# Altium footprint library ADI.PcbLib: 9 footprints
Each footprint in its own frame and in the unit in brackets; x right, y up, seen from the top. Pads: shape width x height; smd on the part's side, far side on the other; paste and mask are expansions set on the pad; w line width, h text height; cw(c..) or ccw(c..) is an arc to the next point about the centre after c.
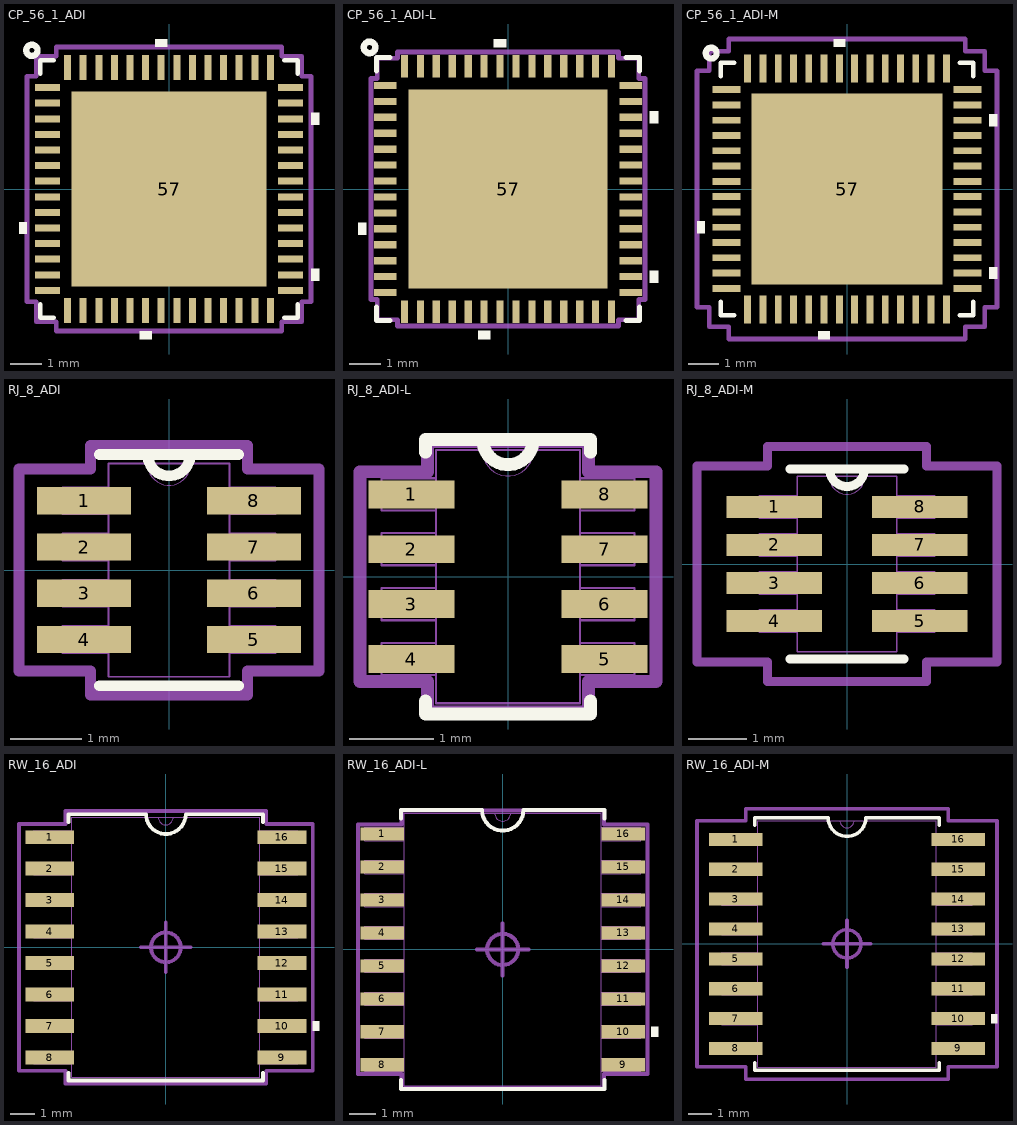
[diagram p0: the footprints below, top view; thin cyan lines are the x and y axes]

## CP_56_1_ADI [mm]
pads (57):
  rect 0.808x0.225 smd paste+0 mask+0: 1(-3.896,3.25) 2(-3.896,2.75) 3(-3.896,2.25) 4(-3.896,1.75) 5(-3.896,1.25) 6(-3.896,0.75) 7(-3.896,0.25) 8(-3.896,-0.25) 9(-3.896,-0.75) 10(-3.896,-1.25) 11(-3.896,-1.75) 12(-3.896,-2.25) 13(-3.896,-2.75) 14(-3.896,-3.25) 29(3.896,-3.25) 30(3.896,-2.75) 31(3.896,-2.25) 32(3.896,-1.75) 33(3.896,-1.25) 34(3.896,-0.75) 35(3.896,-0.25) 36(3.896,0.25) 37(3.896,0.75) 38(3.896,1.25) 39(3.896,1.75) 40(3.896,2.25) 41(3.896,2.75) 42(3.896,3.25)
  rect 0.225x0.808 smd paste+0 mask+0: 15(-3.25,-3.896) 16(-2.75,-3.896) 17(-2.25,-3.896) 18(-1.75,-3.896) 19(-1.25,-3.896) 20(-0.75,-3.896) 21(-0.25,-3.896) 22(0.25,-3.896) 23(0.75,-3.896) 24(1.25,-3.896) 25(1.75,-3.896) 26(2.25,-3.896) 27(2.75,-3.896) 28(3.25,-3.896) 43(3.25,3.896) 44(2.75,3.896) 45(2.25,3.896) 46(1.75,3.896) 47(1.25,3.896) 48(0.75,3.896) 49(0.25,3.896) 50(-0.25,3.896) 51(-0.75,3.896) 52(-1.25,3.896) 53(-1.75,3.896) 54(-2.25,3.896) 55(-2.75,3.896) 56(-3.25,3.896)
  rect 6.248x6.248 smd paste-3.111 mask+0: 57(0,0)
Top Overlay:
  circle w0.2: c-4.395,4.445 r0.18
  region: -0.059,4.554 -0.44,4.554 -0.44,4.808 -0.059,4.808
  region: 4.554,2.441 4.808,2.441 4.808,2.06 4.554,2.06
  region: 4.554,-2.559 4.808,-2.559 4.808,-2.94 4.554,-2.94
  region: -0.56,-4.554 -0.941,-4.554 -0.941,-4.808 -0.56,-4.808
  region: -4.554,-1.06 -4.808,-1.06 -4.808,-1.441 -4.554,-1.441
  lines w0.152: -4.127,-3.695 -4.127,-4.127 -3.695,-4.127 ; -4.127,3.695 -4.127,4.127 -3.695,4.127 ; 3.695,-4.127 4.127,-4.127 4.127,-3.695 ; 3.695,4.127 4.127,4.127 4.127,3.695
Top Paste:
  region: 3.024,-1.662 1.662,-1.662 1.662,-3.024 3.024,-3.024
  region: 3.024,-0.1 1.662,-0.1 1.662,-1.462 3.024,-1.462
  region: 3.024,1.462 1.662,1.462 1.662,0.1 3.024,0.1
  region: 3.024,3.024 1.662,3.024 1.662,1.662 3.024,1.662
  region: 1.462,-1.662 0.1,-1.662 0.1,-3.024 1.462,-3.024
  region: 1.462,-0.1 0.1,-0.1 0.1,-1.462 1.462,-1.462
  region: 1.462,1.462 0.1,1.462 0.1,0.1 1.462,0.1
  region: 1.462,3.024 0.1,3.024 0.1,1.662 1.462,1.662
  region: -0.1,-1.662 -1.462,-1.662 -1.462,-3.024 -0.1,-3.024
  region: -0.1,-0.1 -1.462,-0.1 -1.462,-1.462 -0.1,-1.462
  region: -0.1,1.462 -1.462,1.462 -1.462,0.1 -0.1,0.1
  region: -0.1,3.024 -1.462,3.024 -1.462,1.662 -0.1,1.662
  region: -1.662,-1.662 -3.024,-1.662 -3.024,-3.024 -1.662,-3.024
  region: -1.662,-0.1 -3.024,-0.1 -3.024,-1.462 -1.662,-1.462
  region: -1.662,1.462 -3.024,1.462 -3.024,0.1 -1.662,0.1
  region: -1.662,3.024 -3.024,3.024 -3.024,1.662 -1.662,1.662
Mechanical 15:
  lines w0.152: -4.554,-3.616 -4.554,3.616 -4.255,3.616 -4.255,4.255 -3.616,4.255 -3.616,4.554 3.616,4.554 3.616,4.255 4.255,4.255 4.255,3.616 4.554,3.616 4.554,-3.616 4.255,-3.616 4.255,-4.255 3.616,-4.255 3.616,-4.554 -3.616,-4.554 -3.616,-4.255 -4.255,-4.255 -4.255,-3.616 -4.554,-3.616
3D body "CP_56_1_ADI.step": height 0.97, standoff 0, extent -4,-4 4,4

## CP_56_1_ADI-L [mm]
pads (57):
  rect 0.708x0.225 smd paste+0 mask+0: 1(-3.846,3.25) 2(-3.846,2.75) 3(-3.846,2.25) 4(-3.846,1.75) 5(-3.846,1.25) 6(-3.846,0.75) 7(-3.846,0.25) 8(-3.846,-0.25) 9(-3.846,-0.75) 10(-3.846,-1.25) 11(-3.846,-1.75) 12(-3.846,-2.25) 13(-3.846,-2.75) 14(-3.846,-3.25) 29(3.846,-3.25) 30(3.846,-2.75) 31(3.846,-2.25) 32(3.846,-1.75) 33(3.846,-1.25) 34(3.846,-0.75) 35(3.846,-0.25) 36(3.846,0.25) 37(3.846,0.75) 38(3.846,1.25) 39(3.846,1.75) 40(3.846,2.25) 41(3.846,2.75) 42(3.846,3.25)
  rect 0.225x0.708 smd paste+0 mask+0: 15(-3.25,-3.846) 16(-2.75,-3.846) 17(-2.25,-3.846) 18(-1.75,-3.846) 19(-1.25,-3.846) 20(-0.75,-3.846) 21(-0.25,-3.846) 22(0.25,-3.846) 23(0.75,-3.846) 24(1.25,-3.846) 25(1.75,-3.846) 26(2.25,-3.846) 27(2.75,-3.846) 28(3.25,-3.846) 43(3.25,3.846) 44(2.75,3.846) 45(2.25,3.846) 46(1.75,3.846) 47(1.25,3.846) 48(0.75,3.846) 49(0.25,3.846) 50(-0.25,3.846) 51(-0.75,3.846) 52(-1.25,3.846) 53(-1.75,3.846) 54(-2.25,3.846) 55(-2.75,3.846) 56(-3.25,3.846)
  rect 6.248x6.248 smd paste-3.111 mask+0: 57(0,0)
Top Overlay:
  circle w0.2: c-4.345,4.445 r0.18
  region: -0.059,4.454 -0.44,4.454 -0.44,4.708 -0.059,4.708
  region: 4.454,2.441 4.708,2.441 4.708,2.06 4.454,2.06
  region: 4.454,-2.559 4.708,-2.559 4.708,-2.94 4.454,-2.94
  region: -0.56,-4.454 -0.941,-4.454 -0.941,-4.708 -0.56,-4.708
  region: -4.454,-1.06 -4.708,-1.06 -4.708,-1.441 -4.454,-1.441
  lines w0.152: -4.127,-3.695 -4.127,-4.127 -3.695,-4.127 ; -4.127,3.695 -4.127,4.127 -3.695,4.127 ; 3.695,-4.127 4.127,-4.127 4.127,-3.695 ; 3.695,4.127 4.127,4.127 4.127,3.695
Top Paste:
  region: 3.024,-1.662 1.662,-1.662 1.662,-3.024 3.024,-3.024
  region: 3.024,-0.1 1.662,-0.1 1.662,-1.462 3.024,-1.462
  region: 3.024,1.462 1.662,1.462 1.662,0.1 3.024,0.1
  region: 3.024,3.024 1.662,3.024 1.662,1.662 3.024,1.662
  region: 1.462,-1.662 0.1,-1.662 0.1,-3.024 1.462,-3.024
  region: 1.462,-0.1 0.1,-0.1 0.1,-1.462 1.462,-1.462
  region: 1.462,1.462 0.1,1.462 0.1,0.1 1.462,0.1
  region: 1.462,3.024 0.1,3.024 0.1,1.662 1.462,1.662
  region: -0.1,-1.662 -1.462,-1.662 -1.462,-3.024 -0.1,-3.024
  region: -0.1,-0.1 -1.462,-0.1 -1.462,-1.462 -0.1,-1.462
  region: -0.1,1.462 -1.462,1.462 -1.462,0.1 -0.1,0.1
  region: -0.1,3.024 -1.462,3.024 -1.462,1.662 -0.1,1.662
  region: -1.662,-1.662 -3.024,-1.662 -3.024,-3.024 -1.662,-3.024
  region: -1.662,-0.1 -3.024,-0.1 -3.024,-1.462 -1.662,-1.462
  region: -1.662,1.462 -3.024,1.462 -3.024,0.1 -1.662,0.1
  region: -1.662,3.024 -3.024,3.024 -3.024,1.662 -1.662,1.662
Mechanical 15:
  lines w0.152: -4.302,-3.464 -4.302,3.464 -4.102,3.464 -4.102,4.102 -3.464,4.102 -3.464,4.302 3.464,4.302 3.464,4.102 4.102,4.102 4.102,3.464 4.302,3.464 4.302,-3.464 4.102,-3.464 4.102,-4.102 3.464,-4.102 3.464,-4.302 -3.464,-4.302 -3.464,-4.102 -4.102,-4.102 -4.102,-3.464 -4.302,-3.464
3D body "CP_56_1_ADI-L.step": height 0.97, standoff 0, extent -4,-4 4,4

## CP_56_1_ADI-M [mm]
pads (57):
  rect 0.908x0.225 smd paste+0 mask+0: 1(-3.946,3.25) 2(-3.946,2.75) 3(-3.946,2.25) 4(-3.946,1.75) 5(-3.946,1.25) 6(-3.946,0.75) 7(-3.946,0.25) 8(-3.946,-0.25) 9(-3.946,-0.75) 10(-3.946,-1.25) 11(-3.946,-1.75) 12(-3.946,-2.25) 13(-3.946,-2.75) 14(-3.946,-3.25) 29(3.946,-3.25) 30(3.946,-2.75) 31(3.946,-2.25) 32(3.946,-1.75) 33(3.946,-1.25) 34(3.946,-0.75) 35(3.946,-0.25) 36(3.946,0.25) 37(3.946,0.75) 38(3.946,1.25) 39(3.946,1.75) 40(3.946,2.25) 41(3.946,2.75) 42(3.946,3.25)
  rect 0.225x0.908 smd paste+0 mask+0: 15(-3.25,-3.946) 16(-2.75,-3.946) 17(-2.25,-3.946) 18(-1.75,-3.946) 19(-1.25,-3.946) 20(-0.75,-3.946) 21(-0.25,-3.946) 22(0.25,-3.946) 23(0.75,-3.946) 24(1.25,-3.946) 25(1.75,-3.946) 26(2.25,-3.946) 27(2.75,-3.946) 28(3.25,-3.946) 43(3.25,3.946) 44(2.75,3.946) 45(2.25,3.946) 46(1.75,3.946) 47(1.25,3.946) 48(0.75,3.946) 49(0.25,3.946) 50(-0.25,3.946) 51(-0.75,3.946) 52(-1.25,3.946) 53(-1.75,3.946) 54(-2.25,3.946) 55(-2.75,3.946) 56(-3.25,3.946)
  rect 6.248x6.248 smd paste-3.111 mask+0: 57(0,0)
Top Overlay:
  circle w0.2: c-4.445,4.445 r0.18
  region: -4.654,-1.06 -4.908,-1.06 -4.908,-1.441 -4.654,-1.441
  region: -0.56,-4.654 -0.941,-4.654 -0.941,-4.908 -0.56,-4.908
  region: 4.654,-2.559 4.908,-2.559 4.908,-2.94 4.654,-2.94
  region: 4.654,2.441 4.908,2.441 4.908,2.06 4.654,2.06
  region: -0.059,4.654 -0.44,4.654 -0.44,4.908 -0.059,4.908
  lines w0.152: -4.127,-3.695 -4.127,-4.127 -3.695,-4.127 ; -4.127,3.695 -4.127,4.127 -3.695,4.127 ; 3.695,-4.127 4.127,-4.127 4.127,-3.695 ; 3.695,4.127 4.127,4.127 4.127,3.695
Top Paste:
  region: -1.662,3.024 -3.024,3.024 -3.024,1.662 -1.662,1.662
  region: -1.662,1.462 -3.024,1.462 -3.024,0.1 -1.662,0.1
  region: -1.662,-0.1 -3.024,-0.1 -3.024,-1.462 -1.662,-1.462
  region: -1.662,-1.662 -3.024,-1.662 -3.024,-3.024 -1.662,-3.024
  region: -0.1,3.024 -1.462,3.024 -1.462,1.662 -0.1,1.662
  region: -0.1,1.462 -1.462,1.462 -1.462,0.1 -0.1,0.1
  region: -0.1,-0.1 -1.462,-0.1 -1.462,-1.462 -0.1,-1.462
  region: -0.1,-1.662 -1.462,-1.662 -1.462,-3.024 -0.1,-3.024
  region: 1.462,3.024 0.1,3.024 0.1,1.662 1.462,1.662
  region: 1.462,1.462 0.1,1.462 0.1,0.1 1.462,0.1
  region: 1.462,-0.1 0.1,-0.1 0.1,-1.462 1.462,-1.462
  region: 1.462,-1.662 0.1,-1.662 0.1,-3.024 1.462,-3.024
  region: 3.024,3.024 1.662,3.024 1.662,1.662 3.024,1.662
  region: 3.024,1.462 1.662,1.462 1.662,0.1 3.024,0.1
  region: 3.024,-0.1 1.662,-0.1 1.662,-1.462 3.024,-1.462
  region: 3.024,-1.662 1.662,-1.662 1.662,-3.024 3.024,-3.024
Mechanical 15:
  lines w0.152: -4.908,-3.87 -4.508,-3.87 -4.508,-4.508 -3.87,-4.508 -3.87,-4.908 3.87,-4.908 3.87,-4.508 4.508,-4.508 4.508,-3.87 4.908,-3.87 4.908,3.87 4.508,3.87 4.508,4.508 3.87,4.508 3.87,4.908 -3.87,4.908 -3.87,4.508 -4.508,4.508 -4.508,3.87 -4.908,3.87 -4.908,-3.87
3D body "CP_56_1_ADI-M.step": height 0.97, standoff 0, extent -4,-4 4,4

## RJ_8_ADI [mil]
pads (8):
  rect 52x15 smd: 1(-47,38.39) 2(-47,12.8) 3(-47,-12.8) 4(-47,-38.39) 5(47,-38.39) 6(47,-12.8) 7(47,12.8) 8(47,38.39)
Top Overlay:
  lines w5.98: -11.81,64 ccw(c0,64) 11.81,64
  lines w6: -38.5,-64 38.5,-64 ; -38.5,64 38.5,64
Mechanical 13:
  lines w0: -12,59 ccw(c0,59) 12,59
  lines w1: -59,-45.89 -59,-30.89 -33.5,-30.89 -33.5,-45.89 -59,-45.89 ; -59,-20.3 -59,-5.3 -33.5,-5.3 -33.5,-20.3 -59,-20.3 ; -59,5.3 -59,20.3 -33.5,20.3 -33.5,5.3 -59,5.3 ; -59,30.89 -59,45.89 -33.5,45.89 -33.5,30.89 -59,30.89 ; -33.5,-59 33.5,-59 33.5,59 -33.5,59 -33.5,-59 ; 33.5,-45.89 33.5,-30.89 59,-30.89 59,-45.89 33.5,-45.89 ; 33.5,-20.3 33.5,-5.3 59,-5.3 59,-20.3 33.5,-20.3 ; 33.5,5.3 33.5,20.3 59,20.3 59,5.3 33.5,5.3 ; 33.5,30.89 33.5,45.89 59,45.89 59,30.89 33.5,30.89
Mechanical 15:
  lines w6: -83,-55.89 -43.5,-55.89 -43.5,-69 43.5,-69 43.5,-55.89 83,-55.89 83,55.89 43.5,55.89 43.5,69 -43.5,69 -43.5,55.89 -83,55.89 -83,-55.89
3D body "RJ_8_ADI.step": height 57.09, standoff 0, extent -59.01,-59.01 59.02,59.02

## RJ_8_ADI-L [mil]
pads (8):
  rect 40x13 smd: 1(-45,38.39) 2(-45,12.8) 3(-45,-12.8) 4(-45,-38.39) 5(45,-38.39) 6(45,-12.8) 7(45,12.8) 8(45,38.39)
Top Overlay:
  lines w5.98: -11.81,64 ccw(c0,64) 11.81,64
  lines w6: -38.5,-57.99 -38.5,-64 38.5,-64 38.5,-57.99 ; -38.5,57.99 -38.5,64 38.5,64 38.5,57.99
Mechanical 13:
  lines w0: -12,59 ccw(c0,59) 12,59
  lines w1: -59,-45.89 -59,-30.89 -33.5,-30.89 -33.5,-45.89 -59,-45.89 ; -59,-20.3 -59,-5.3 -33.5,-5.3 -33.5,-20.3 -59,-20.3 ; -59,5.3 -59,20.3 -33.5,20.3 -33.5,5.3 -59,5.3 ; -59,30.89 -59,45.89 -33.5,45.89 -33.5,30.89 -59,30.89 ; -33.5,-59 33.5,-59 33.5,59 -33.5,59 -33.5,-59 ; 33.5,-45.89 33.5,-30.89 59,-30.89 59,-45.89 33.5,-45.89 ; 33.5,-20.3 33.5,-5.3 59,-5.3 59,-20.3 33.5,-20.3 ; 33.5,5.3 33.5,20.3 59,20.3 59,5.3 33.5,5.3 ; 33.5,30.89 33.5,45.89 59,45.89 59,30.89 33.5,30.89
Mechanical 15:
  lines w6: -69,-48.89 -37.5,-48.89 -37.5,-63 37.5,-63 37.5,-48.89 69,-48.89 69,48.89 37.5,48.89 37.5,63 -37.5,63 -37.5,48.89 -69,48.89 -69,-48.89
3D body "RJ_8_ADI.step": height 57.09, standoff 0, extent -59.01,-59.01 59.02,59.02

## RJ_8_ADI-M [mil]
pads (8):
  rect 64x15 smd: 1(-49,38.39) 2(-49,12.8) 3(-49,-12.8) 4(-49,-38.39) 5(49,-38.39) 6(49,-12.8) 7(49,12.8) 8(49,38.39)
Top Overlay:
  lines w5.98: -11.81,64 ccw(c0,64) 11.81,64
  lines w6: -38.5,-64 38.5,-64 ; -38.5,64 38.5,64
Mechanical 13:
  lines w0: -12,59 ccw(c0,59) 12,59
  lines w1: -59,-45.89 -33.5,-45.89 -33.5,-30.89 -59,-30.89 -59,-45.89 ; -59,-20.3 -33.5,-20.3 -33.5,-5.3 -59,-5.3 -59,-20.3 ; -59,5.3 -33.5,5.3 -33.5,20.3 -59,20.3 -59,5.3 ; -59,30.89 -33.5,30.89 -33.5,45.89 -59,45.89 -59,30.89 ; -33.5,-59 -33.5,59 33.5,59 33.5,-59 -33.5,-59 ; 33.5,-45.89 59,-45.89 59,-30.89 33.5,-30.89 33.5,-45.89 ; 33.5,-20.3 59,-20.3 59,-5.3 33.5,-5.3 33.5,-20.3 ; 33.5,5.3 59,5.3 59,20.3 33.5,20.3 33.5,5.3 ; 33.5,30.89 59,30.89 59,45.89 33.5,45.89 33.5,30.89
Mechanical 15:
  lines w6: -101,-65.89 -101,65.89 -53.5,65.89 -53.5,79 53.5,79 53.5,65.89 101,65.89 101,-65.89 53.5,-65.89 53.5,-79 -53.5,-79 -53.5,-65.89 -101,-65.89
3D body "RJ_8_ADI.step": height 57.09, standoff 0, extent -59.01,-59.01 59.02,59.02

## RW_16_ADI [mm]
pads (16):
  rect 1.97x0.558 smd: 1(-4.686,4.445) 2(-4.686,3.175) 3(-4.686,1.905) 4(-4.686,0.635) 5(-4.686,-0.635) 6(-4.686,-1.905) 7(-4.686,-3.175) 8(-4.686,-4.445) 9(4.686,-4.445) 10(4.686,-3.175) 11(4.686,-1.905) 12(4.686,-0.635) 13(4.686,0.635) 14(4.686,1.905) 15(4.686,3.175) 16(4.686,4.445)
Top Overlay:
  region: 5.925,-2.984 6.179,-2.984 6.179,-3.365 5.925,-3.365
  lines w0.152: -3.924,-5.057 -3.924,-5.372 3.924,-5.372 3.924,-5.057 ; -3.924,5.057 -3.924,5.372 -0.8,5.372 ccw(c0,5.372) 0.8,5.372 3.924,5.372 3.924,5.057
Mechanical 13:
  lines w0: -0.305,5.245 ccw(c0,5.245) 0.305,5.245
  lines w0.025: -5.321,-4.699 -3.797,-4.699 -3.797,-4.191 -5.321,-4.191 -5.321,-4.699 ; -5.321,-3.429 -3.797,-3.429 -3.797,-2.921 -5.321,-2.921 -5.321,-3.429 ; -5.321,-2.159 -3.797,-2.159 -3.797,-1.651 -5.321,-1.651 -5.321,-2.159 ; -5.321,-0.889 -3.797,-0.889 -3.797,-0.381 -5.321,-0.381 -5.321,-0.889 ; -5.321,0.381 -3.797,0.381 -3.797,0.889 -5.321,0.889 -5.321,0.381 ; -5.321,1.651 -3.797,1.651 -3.797,2.159 -5.321,2.159 -5.321,1.651 ; -5.321,2.921 -3.797,2.921 -3.797,3.429 -5.321,3.429 -5.321,2.921 ; -5.321,4.191 -3.797,4.191 -3.797,4.699 -5.321,4.699 -5.321,4.191 ; -3.797,-5.245 -3.797,5.245 3.797,5.245 3.797,-5.245 -3.797,-5.245 ; 3.797,-4.699 5.321,-4.699 5.321,-4.191 3.797,-4.191 3.797,-4.699 ; 3.797,-3.429 5.321,-3.429 5.321,-2.921 3.797,-2.921 3.797,-3.429 ; 3.797,-2.159 5.321,-2.159 5.321,-1.651 3.797,-1.651 3.797,-2.159 ; 3.797,-0.889 5.321,-0.889 5.321,-0.381 3.797,-0.381 3.797,-0.889 ; 3.797,0.381 5.321,0.381 5.321,0.889 3.797,0.889 3.797,0.381 ; 3.797,1.651 5.321,1.651 5.321,2.159 3.797,2.159 3.797,1.651 ; 3.797,2.921 5.321,2.921 5.321,3.429 3.797,3.429 3.797,2.921 ; 3.797,4.191 5.321,4.191 5.321,4.699 3.797,4.699 3.797,4.191
Mechanical 15:
  circle w0.152: c0,0 r0.6
  lines w0.152: -1,0 0,0 ; 0,-1 0,0 ; 0,1 0,0 ; 1,0 0,0 ; -5.925,-4.978 -4.051,-4.978 -4.051,-5.499 4.051,-5.499 4.051,-4.978 5.925,-4.978 5.925,4.978 4.051,4.978 4.051,5.499 -4.051,5.499 -4.051,4.978 -5.925,4.978 -5.925,-4.978
3D body "RW_16_ADI.step": height 2.64, standoff 0, extent -5.321,-5.245 5.321,5.245

## RW_16_ADI-L [mm]
pads (16):
  rect 1.67x0.508 smd: 1(-4.636,4.445) 2(-4.636,3.175) 3(-4.636,1.905) 4(-4.636,0.635) 5(-4.636,-0.635) 6(-4.636,-1.905) 7(-4.636,-3.175) 8(-4.636,-4.445) 9(4.636,-4.445) 10(4.636,-3.175) 11(4.636,-1.905) 12(4.636,-0.635) 13(4.636,0.635) 14(4.636,1.905) 15(4.636,3.175) 16(4.636,4.445)
Top Overlay:
  region: 5.725,-2.984 5.979,-2.984 5.979,-3.365 5.725,-3.365
  lines w0.152: -3.924,-5.032 -3.924,-5.372 3.924,-5.372 3.924,-5.032 ; -3.924,5.032 -3.924,5.372 -0.8,5.372 ccw(c0,5.372) 0.8,5.372 3.924,5.372 3.924,5.032
Mechanical 13:
  lines w0: -0.305,5.245 ccw(c0,5.245) 0.305,5.245
  lines w0.025: -5.321,-4.699 -3.797,-4.699 -3.797,-4.191 -5.321,-4.191 -5.321,-4.699 ; -5.321,-3.429 -3.797,-3.429 -3.797,-2.921 -5.321,-2.921 -5.321,-3.429 ; -5.321,-2.159 -3.797,-2.159 -3.797,-1.651 -5.321,-1.651 -5.321,-2.159 ; -5.321,-0.889 -3.797,-0.889 -3.797,-0.381 -5.321,-0.381 -5.321,-0.889 ; -5.321,0.381 -3.797,0.381 -3.797,0.889 -5.321,0.889 -5.321,0.381 ; -5.321,1.651 -3.797,1.651 -3.797,2.159 -5.321,2.159 -5.321,1.651 ; -5.321,2.921 -3.797,2.921 -3.797,3.429 -5.321,3.429 -5.321,2.921 ; -5.321,4.191 -3.797,4.191 -3.797,4.699 -5.321,4.699 -5.321,4.191 ; -3.797,-5.245 -3.797,5.245 3.797,5.245 3.797,-5.245 -3.797,-5.245 ; 3.797,-4.699 5.321,-4.699 5.321,-4.191 3.797,-4.191 3.797,-4.699 ; 3.797,-3.429 5.321,-3.429 5.321,-2.921 3.797,-2.921 3.797,-3.429 ; 3.797,-2.159 5.321,-2.159 5.321,-1.651 3.797,-1.651 3.797,-2.159 ; 3.797,-0.889 5.321,-0.889 5.321,-0.381 3.797,-0.381 3.797,-0.889 ; 3.797,0.381 5.321,0.381 5.321,0.889 3.797,0.889 3.797,0.381 ; 3.797,1.651 5.321,1.651 5.321,2.159 3.797,2.159 3.797,1.651 ; 3.797,2.921 5.321,2.921 5.321,3.429 3.797,3.429 3.797,2.921 ; 3.797,4.191 5.321,4.191 5.321,4.699 3.797,4.699 3.797,4.191
Mechanical 15:
  circle w0.152: c0,0 r0.6
  lines w0.152: -1,0 0,0 ; 0,-1 0,0 ; 0,1 0,0 ; 1,0 0,0 ; -5.573,-4.801 -3.899,-4.801 -3.899,-5.347 3.899,-5.347 3.899,-4.801 5.573,-4.801 5.573,4.801 3.899,4.801 3.899,5.347 -3.899,5.347 -3.899,4.801 -5.573,4.801 -5.573,-4.801
3D body "RW_16_ADI.step": height 2.64, standoff 0, extent -5.321,-5.245 5.321,5.245

## RW_16_ADI-M [mm]
pads (16):
  rect 2.27x0.558 smd: 1(-4.736,4.445) 2(-4.736,3.175) 3(-4.736,1.905) 4(-4.736,0.635) 5(-4.736,-0.635) 6(-4.736,-1.905) 7(-4.736,-3.175) 8(-4.736,-4.445) 9(4.736,-4.445) 10(4.736,-3.175) 11(4.736,-1.905) 12(4.736,-0.635) 13(4.736,0.635) 14(4.736,1.905) 15(4.736,3.175) 16(4.736,4.445)
Top Overlay:
  region: 6.125,-2.984 6.379,-2.984 6.379,-3.365 6.125,-3.365
  lines w0.152: -3.924,-5.057 -3.924,-5.372 3.924,-5.372 3.924,-5.057 ; -3.924,5.057 -3.924,5.372 -0.8,5.372 ccw(c0,5.372) 0.8,5.372 3.924,5.372 3.924,5.057
Mechanical 13:
  lines w0: -0.305,5.245 ccw(c0,5.245) 0.305,5.245
  lines w0.025: -5.321,-4.699 -3.797,-4.699 -3.797,-4.191 -5.321,-4.191 -5.321,-4.699 ; -5.321,-3.429 -3.797,-3.429 -3.797,-2.921 -5.321,-2.921 -5.321,-3.429 ; -5.321,-2.159 -3.797,-2.159 -3.797,-1.651 -5.321,-1.651 -5.321,-2.159 ; -5.321,-0.889 -3.797,-0.889 -3.797,-0.381 -5.321,-0.381 -5.321,-0.889 ; -5.321,0.381 -3.797,0.381 -3.797,0.889 -5.321,0.889 -5.321,0.381 ; -5.321,1.651 -3.797,1.651 -3.797,2.159 -5.321,2.159 -5.321,1.651 ; -5.321,2.921 -3.797,2.921 -3.797,3.429 -5.321,3.429 -5.321,2.921 ; -5.321,4.191 -3.797,4.191 -3.797,4.699 -5.321,4.699 -5.321,4.191 ; -3.797,-5.245 -3.797,5.245 3.797,5.245 3.797,-5.245 -3.797,-5.245 ; 3.797,-4.699 5.321,-4.699 5.321,-4.191 3.797,-4.191 3.797,-4.699 ; 3.797,-3.429 5.321,-3.429 5.321,-2.921 3.797,-2.921 3.797,-3.429 ; 3.797,-2.159 5.321,-2.159 5.321,-1.651 3.797,-1.651 3.797,-2.159 ; 3.797,-0.889 5.321,-0.889 5.321,-0.381 3.797,-0.381 3.797,-0.889 ; 3.797,0.381 5.321,0.381 5.321,0.889 3.797,0.889 3.797,0.381 ; 3.797,1.651 5.321,1.651 5.321,2.159 3.797,2.159 3.797,1.651 ; 3.797,2.921 5.321,2.921 5.321,3.429 3.797,3.429 3.797,2.921 ; 3.797,4.191 5.321,4.191 5.321,4.699 3.797,4.699 3.797,4.191
Mechanical 15:
  circle w0.152: c0,0 r0.6
  lines w0.152: -1,0 0,0 ; 0,-1 0,0 ; 0,1 0,0 ; 1,0 0,0 ; -6.379,-5.232 -4.305,-5.232 -4.305,-5.753 4.305,-5.753 4.305,-5.232 6.379,-5.232 6.379,5.232 4.305,5.232 4.305,5.753 -4.305,5.753 -4.305,5.232 -6.379,5.232 -6.379,-5.232
3D body "RW_16_ADI.step": height 2.64, standoff 0, extent -5.321,-5.245 5.321,5.245